# EAGLE library part SPARKFUN-CONNECTORS_CORTEX_JTAG_DEBUG (library SparkFun RED-V RedBoard)
Cortex Debug Connector - 10 pin Supports JTAG debug, Serial Wire debug, and Serial Wire Viewer. PTH and SMD connector options available. General Connector Information <http://infocenter.arm.com/help/topic/com.arm.doc.faqs/attached/13634/cortex_debug_connectors.pdf> Products: PTH Connector <http://www.digikey.com/product-detail/en/cnc-tech/3220-10-0100-00/1175-1627-ND/3883661> -via Digi-Key SparkFun PSoc <https://www.sparkfun.com/products/13229> SparkFun T <https://www.sparkfun.com/products/13810>
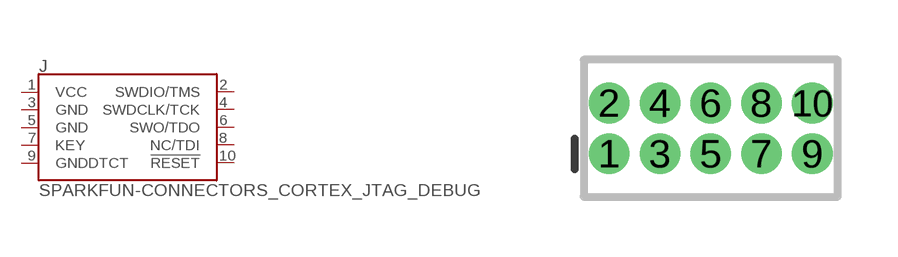
[diagram p3: symbol with the pads of SPARKFUN-CONNECTORS_2X5-PTH-1.27MM-NO_SILK; footprint SPARKFUN-CONNECTORS_2X5-PTH-1.27MM-NO_SILK]

Designator prefix J

## SPARKFUN-CONNECTORS_CORTEX_JTAG_DEBUG_PTH_NS (PROD_ID: CONN-14503; VALUE: JTAG)  [SPARKFUN-CONNECTORS_2X5-PTH-1.27MM-NO_SILK]
1  VCC
2  SWDIO/TMS
3  GND
4  SWDCLK/TCK
5  GND
6  SWO/TDO
7  KEY
8  NC/TDI
9  GNDDTCT
10  !RESET

## Footprint SPARKFUN-CONNECTORS_2X5-PTH-1.27MM-NO_SILK (pad centres in mm)
Plated Through Hole - 2x5 ARM Cortex Debug Connector (10-pin) tDoc (51) layer border represents maximum dimensions of plastic housing. Specifications: Pin count:10 Pin pitch:1.27mm Datasheet referenced for footprint <http://portal.fciconnect.com/Comergent//fci/drawing/20021111.pdf> Example device(s): CONN_05x2
drill 0.508 pad 1: 1 -2.54,-0.635; 2 -2.54,0.635; 3 -1.27,-0.635; 4 -1.27,0.635; 5 0,-0.635; 6 0,0.635; 7 1.27,-0.635; 8 1.27,0.635; 9 2.54,-0.635; 10 2.54,0.635